# Altium footprint library LQA16W140H19D8V2.PcbLib: 14 footprints
Each footprint in its own frame and in the unit in brackets; x right, y up, seen from the top. Pads: shape width x height; smd on the part's side, far side on the other; paste and mask are expansions set on the pad; w line width, h text height; cw(c..) or ccw(c..) is an arc to the next point about the centre after c.
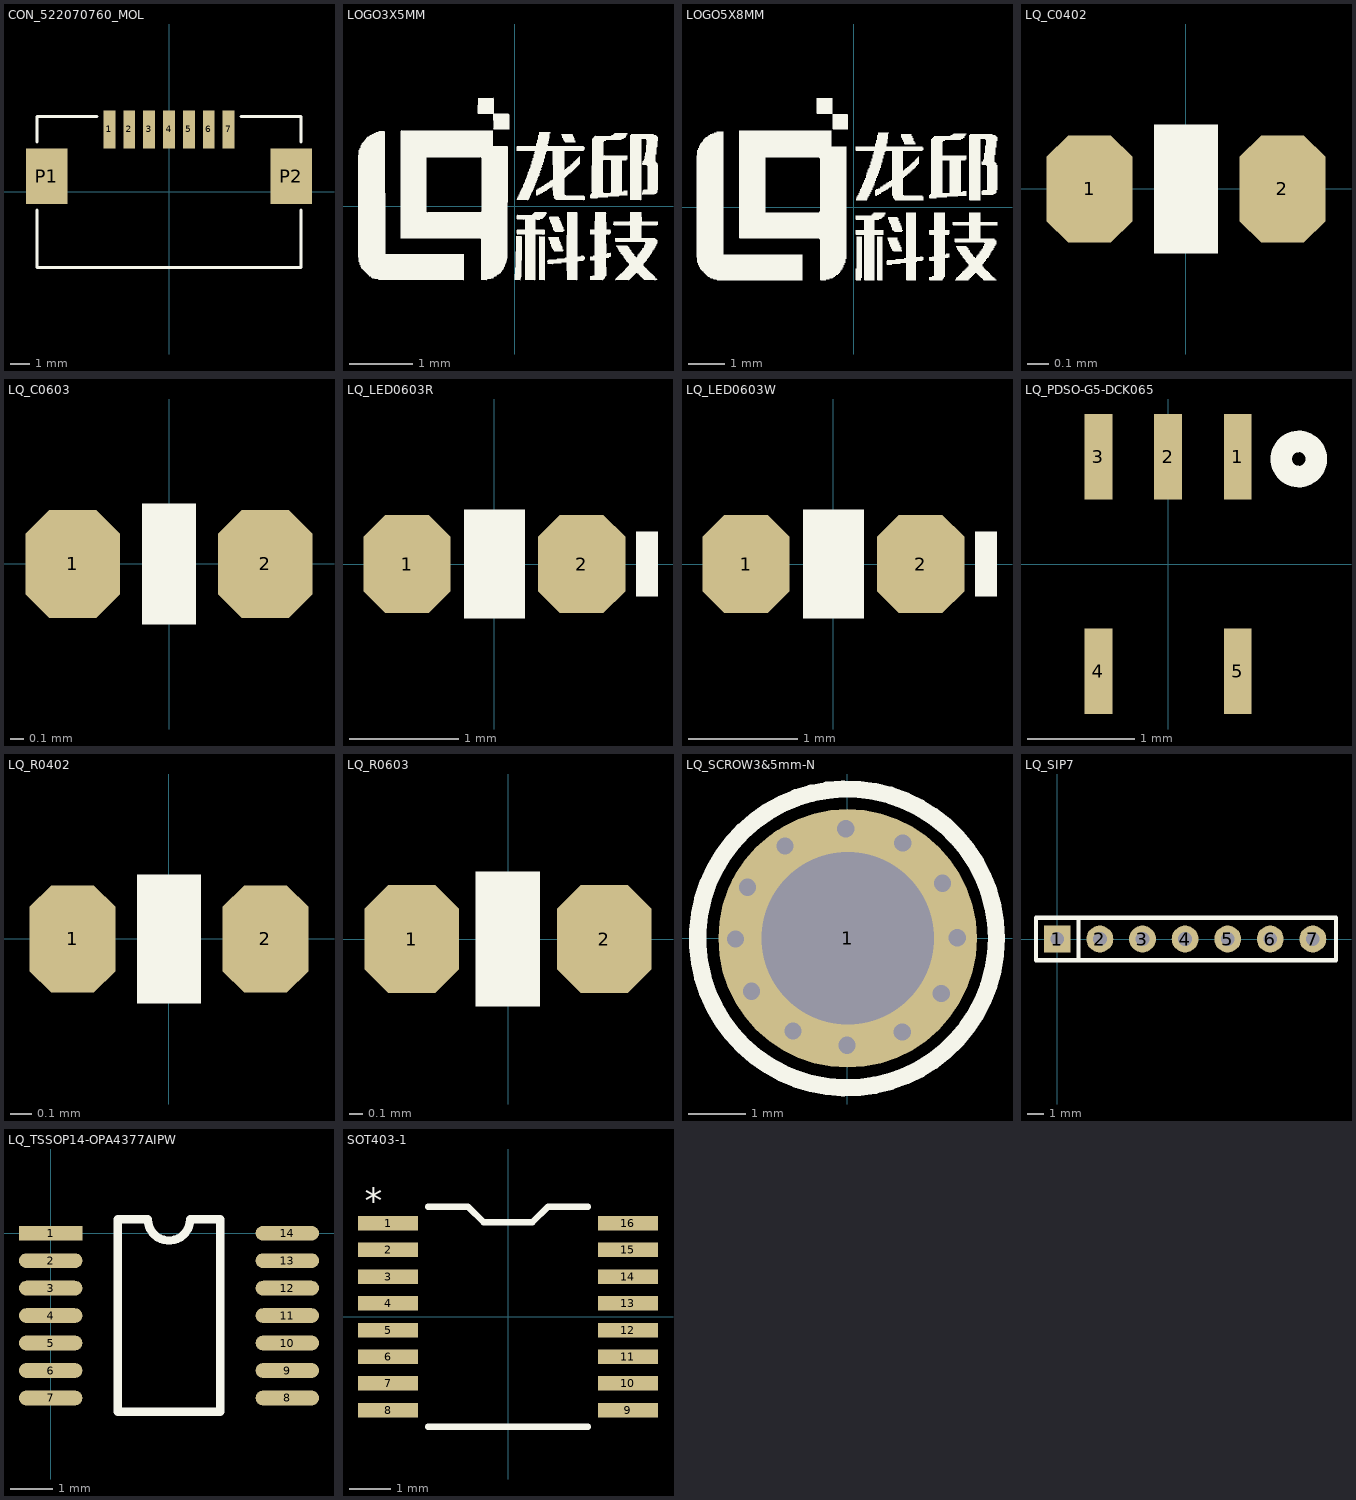
[diagram p0: the footprints below, top view; thin cyan lines are the x and y axes]

## CON_522070760_MOL [mm]
pads (9):
  rect 0.6x1.9 smd paste+0 mask+0.076: 1(-3,3.15) 2(-2,3.15) 3(-1,3.15) 4(0,3.15) 5(1,3.15) 6(2,3.15) 7(3,3.15)
  rect 2.1x2.8 smd paste+0 mask+0.076: P1(-6.15,0.8) P2(6.15,0.8)
Top Overlay:
  lines w0.152: -6.65,-0.918 -6.65,-3.8 6.65,-3.8 6.65,-0.918 ; -6.65,2.517 -6.65,3.8 -3.617,3.8 ; 3.618,3.8 6.65,3.8 6.65,2.517

## LOGO3X5MM [mm]
height 10
Top Overlay:
  drawing of 15 lines, arcs and shapes, not listed

## LOGO5X8MM [mm]
height 10
Top Overlay:
  drawing of 2170 lines, arcs and shapes, not listed

## LQ_C0402 [mm]
height 10
pads (2):
  oct 0.4x0.5 smd: 1(-0.45,0) 2(0.45,0)
Top Overlay:
  rectangle: -0.15,-0.3 0.15,0.3
3D body "LQ_C0402.step": height 0.5, standoff 0, extent -0.51,-0.25 0.49,0.25

## LQ_C0603 [mm]
height 10
pads (2):
  oct 0.7x0.8 smd: 1(-0.711,0) 2(0.711,0)
Top Overlay:
  rectangle: -0.2,-0.45 0.2,0.45
3D body "LQ_C0603.step": height 0.3, standoff 0, extent -0.791,-0.4 0.809,0.4

## LQ_LED0603R [mm]
height 0.6
pads (2):
  oct 0.8x0.9 smd: 1(-0.8,0) 2(0.8,0)
Top Overlay:
  rectangle: 1.3,-0.3 1.5,0.3
  rectangle: -0.28,-0.5 0.28,0.5
3D body "LQ_LED0603R.STEP": height 0.9, standoff 0, extent -0.86,-0.45 0.84,0.45

## LQ_LED0603W [mm]
pads (2):
  oct 0.8x0.9 smd: 1(-0.8,0) 2(0.8,0)
Top Overlay:
  rectangle: 1.3,-0.3 1.5,0.3
  rectangle: -0.28,-0.5 0.28,0.5
3D body "LQ_LED0603W.step": height 0.6, standoff 0, extent -0.79,-0.4 0.81,0.4

## LQ_PDSO-G5-DCK065 [mm]
pads (5):
  rect 0.26x0.8 smd: 1(0.65,1) 2(0,1) 3(-0.65,1) 4(-0.65,-1) 5(0.65,-1)
Top Overlay:
  circle w0.2: c1.22,0.98 r0.164
3D body "User Library-DCK(R-PDSO-G5).step": height 1.1, standoff 0, extent -1,-1.1 1,1.1

## LQ_R0402 [mm]
height 10
pads (2):
  oct 0.4x0.5 smd: 1(-0.45,0) 2(0.45,0)
Top Overlay:
  rectangle: -0.15,-0.3 0.15,0.3
3D body "LQ_R0402_1005.STEP": height 0.41, standoff 0, extent -0.575,-0.275 0.575,0.275

## LQ_R0603 [mm]
height 0.6
pads (2):
  oct 0.7x0.8 smd: 1(-0.711,0) 2(0.711,0)
Top Overlay:
  rectangle: -0.241,-0.5 0.239,0.5
3D body "RES-0603.step": height 0.48, standoff 0.02, extent -0.791,-0.4 0.809,0.4

## LQ_SCROW3&5mm-N [mm]
height 10
pads (1):
  round 4.5 hole 3: 1(0.01,0)
via -0.02,1.91 diameter 0.6 hole 0.3
via 0,-1.86 diameter 0.6 hole 0.3
via -1.94,-0.01 diameter 0.6 hole 0.3
via 1.92,0.01 diameter 0.6 hole 0.3
via 1.66,0.96 diameter 0.6 hole 0.3
via 0.96,-1.63 diameter 0.6 hole 0.3
via -0.94,-1.61 diameter 0.6 hole 0.3
via -1.66,-0.92 diameter 0.6 hole 0.3
via -1.73,0.89 diameter 0.6 hole 0.3
via -1.08,1.61 diameter 0.6 hole 0.3
via 0.97,1.66 diameter 0.6 hole 0.3
via 1.64,-0.96 diameter 0.6 hole 0.3
Top Overlay:
  circle w0.3: c0,0 r2.6
Bottom Overlay:
  circle w0.3: c0,-0.02 r2.6

## LQ_SIP7 [mm]
pads (7):
  rect 1.6x1.6 hole 0.82: 1(0,0)
  round 1.6 hole 0.82: 2(2.54,0) 3(5.08,0) 4(7.62,0) 5(10.16,0) 6(12.7,0) 7(15.24,0)
Top Overlay:
  lines w0.254: 1.27,-1.27 1.27,1.27 ; -1.27,-1.27 -1.27,1.27 16.62,1.27 16.62,-1.27 -1.27,-1.27
3D body "Female-Header-2.54-Single-7.stp": height 8.5, standoff -3.2, extent -1.3,-1.25 16.73,1.25

## LQ_TSSOP14-OPA4377AIPW [mm]
height 10
pads (14):
  rect 1.5x0.35 smd: 1(0,0)
  oval 1.5x0.35 smd: 2(0,-0.65) 3(0,-1.3) 4(0,-1.95) 5(0,-2.6) 6(0,-3.25) 7(0,-3.9) 8(5.6,-3.9) 9(5.6,-3.25) 10(5.6,-2.6) 11(5.6,-1.95) 12(5.6,-1.3) 13(5.6,-0.65) 14(5.6,0)
Top Overlay:
  lines w0.2: 1.585,-4.225 1.585,0.325 2.3,0.325 ccw(c2.8,0.325) 3.3,0.325 4.015,0.325 4.015,-4.225 1.585,-4.225
3D body "User Library-TSSOP14-1.STEP": height 1.1, standoff 0, extent -0.46,-4.41 5.94,0.59

## SOT403-1 [mm]
height 10
pads (16):
  rect 1.462x0.355 smd paste+0 mask+0: 1(-2.921,2.275) 2(-2.921,1.625) 3(-2.921,0.975) 4(-2.921,0.325) 5(-2.921,-0.325) 6(-2.921,-0.975) 7(-2.921,-1.625) 8(-2.921,-2.275) 9(2.921,-2.275) 10(2.921,-1.625) 11(2.921,-0.975) 12(2.921,-0.325) 13(2.921,0.325) 14(2.921,0.975) 15(2.921,1.625) 16(2.921,2.275)
Top Overlay:
  lines w0.152: -1.947,-2.68 1.947,-2.68 ; -1.947,2.68 -0.974,2.68 -0.594,2.3 0.594,2.3 0.973,2.68 1.947,2.68
  text "*" at -3.492,2.503 h0.64
3D body "SOT403-1_NXP.step": height 1.09, standoff 0, extent -3.302,-2.553 3.302,2.553